# Altium footprint library DT134P.PcbLib: 1 footprints
Each footprint in its own frame and in the unit in brackets; x right, y up, seen from the top. Pads: shape width x height; smd on the part's side, far side on the other; paste and mask are expansions set on the pad; w line width, h text height; cw(c..) or ccw(c..) is an arc to the next point about the centre after c.
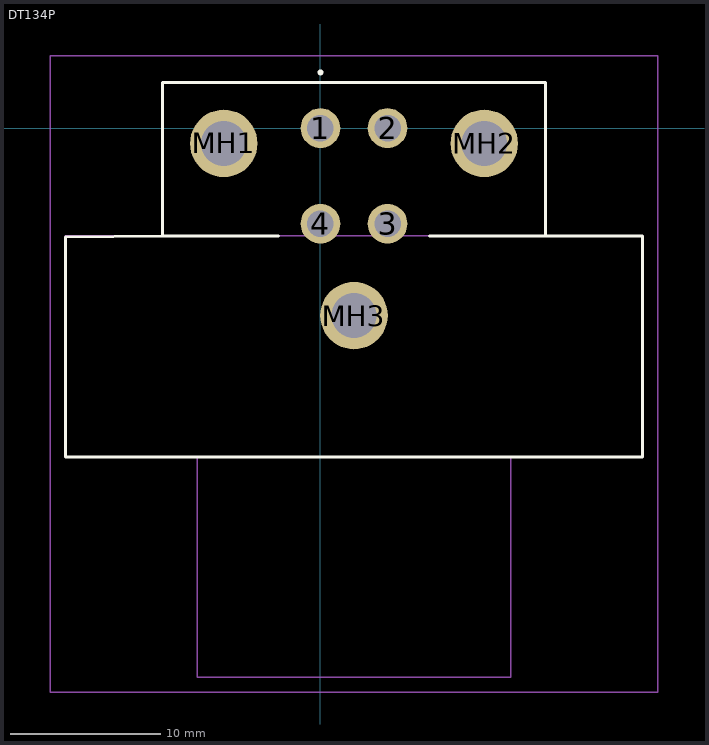
[diagram p0: the footprint, top view; thin cyan lines are the x and y axes]

## DT134P [mm]
pads (7):
  round 2.64 hole 1.76: 1(0,0) 2(4.45,0) 3(4.45,-6.35) 4(0,-6.35)
  round 4.485 hole 2.99: MH1(-6.425,-1.02) MH2(10.875,-1.02) MH3(2.225,-12.45)
Top Overlay:
  lines w0.2: -2.775,-7.15 -10.49,-7.15 ; 7.225,-7.15 14.94,-7.15 ; -10.49,-7.15 -16.95,-7.24 -16.95,-21.85 21.4,-21.85 21.4,-7.15 14.94,-7.15 ; -10.49,-7.15 -10.49,3.04 14.94,3.04 14.94,-7.15 ; 0,3.6 0,3.6 ; 0,3.6 ccw(c0,3.7) 0,3.8 ; 0,3.6 cw(c0,3.7) 0,3.8 ; 0,3.8 0,3.8
Mechanical 15:
  lines w0.1: -8.19,-21.85 -8.19,-36.46 12.64,-36.46 12.64,-21.85 ; -10.49,-7.15 14.94,-7.15 ; -10.49,-7.15 -10.49,3.04 14.94,3.04 14.94,-7.15 ; -10.49,-7.15 -16.95,-7.15 -16.95,-21.85 21.4,-21.85 21.4,-7.15 14.94,-7.15
Mechanical 20:
  lines w0.1: -17.95,-37.46 22.4,-37.46 22.4,4.8 -17.95,4.8 -17.95,-37.46